# Altium footprint library TC2030-MCP-NL.PcbLib: 1 footprints
Each footprint in its own frame and in the unit in brackets; x right, y up, seen from the top. Pads: shape width x height; smd on the part's side, far side on the other; paste and mask are expansions set on the pad; w line width, h text height; cw(c..) or ccw(c..) is an arc to the next point about the centre after c.
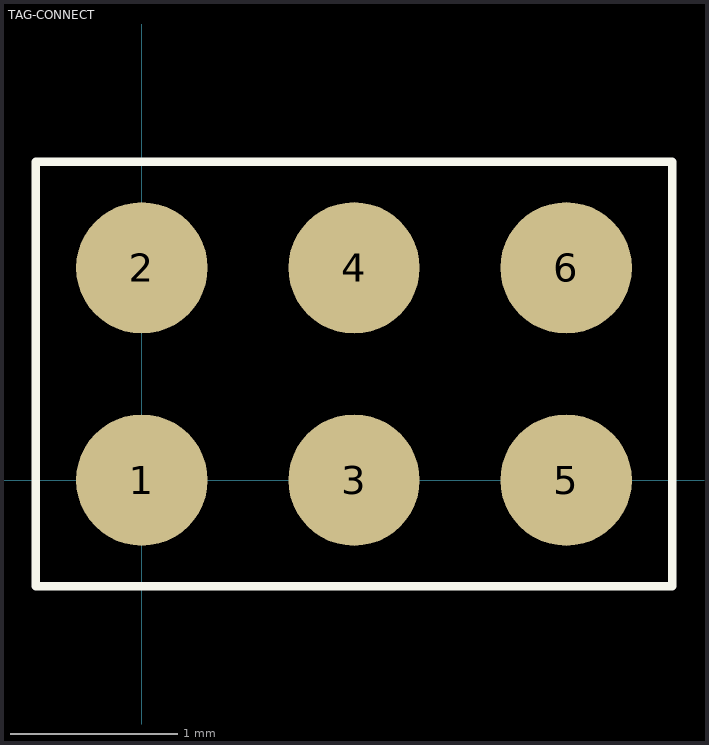
[diagram p0: the footprint, top view; thin cyan lines are the x and y axes]

## TAG-CONNECT [mil]
pads (6):
  round 30.98 smd: 1(0,0) 2(0,50) 3(50,0) 4(50,50) 5(100,0) 6(100,50)
via -50,25 diameter 28 hole 28
via 150,65 diameter 28 hole 28
via 150,-15 diameter 28 hole 28
Top Overlay:
  lines w1.97: -25,-25 125,-25 125,75 -25,75 -25,-25